# Altium footprint library ATK-2014-09-12.PcbLib: 439 footprints (part 24 of 28)
Each footprint in its own frame and in the unit in brackets; x right, y up, seen from the top. Pads: shape width x height; smd on the part's side, far side on the other; paste and mask are expansions set on the pad; w line width, h text height; cw(c..) or ccw(c..) is an arc to the next point about the centre after c.
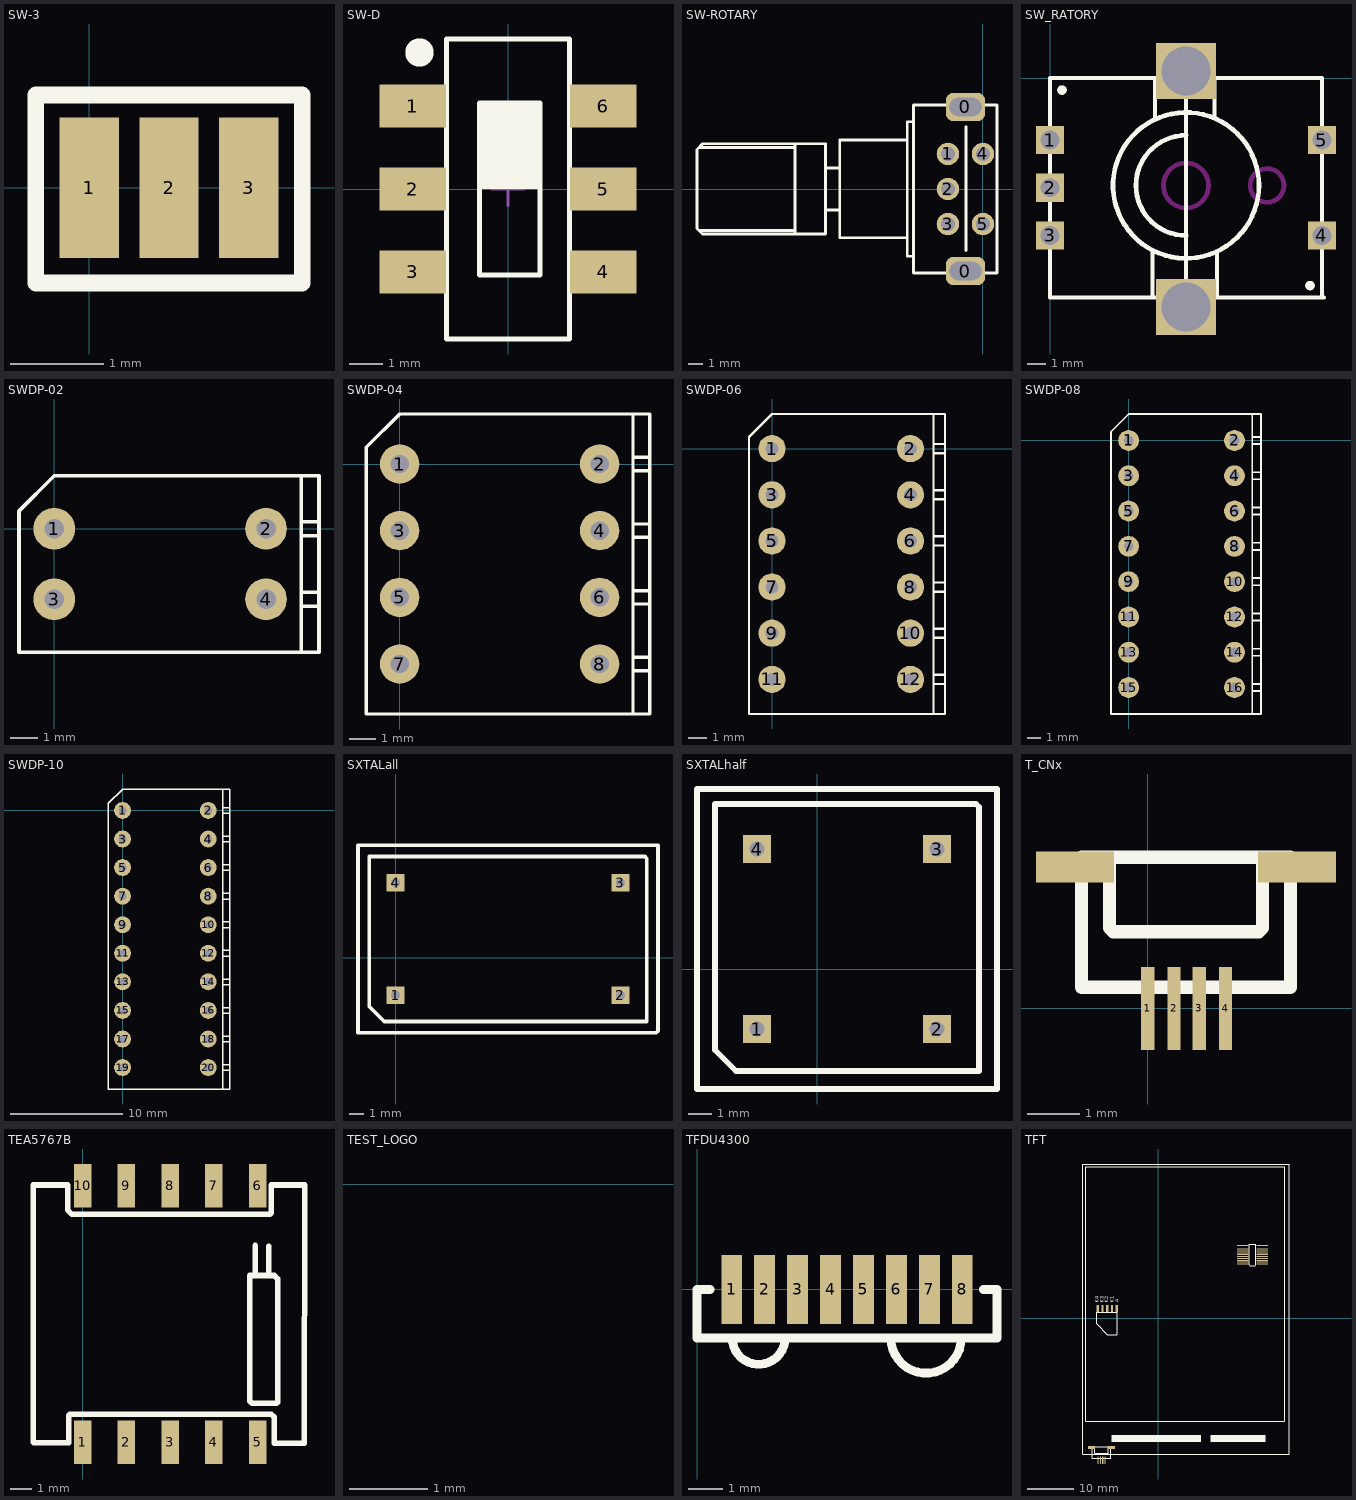
[diagram p23: the footprints below, top view; thin cyan lines are the x and y axes]

## SW-3 [mm] "SWITCH;PIN:10;25*50;"
pads (3):
  rect 0.635x1.5 smd: 1(0,0) 2(0.851,0) 3(1.702,0)
Top Overlay:
  lines w0.178: -0.572,-1.016 -0.572,0.991 2.273,0.991 2.273,-1.016 -0.572,-1.016

## SW-D [mm]
pads (6):
  rect 2x1.3 smd: 1(-2.875,2.5) 2(-2.875,0) 3(-2.875,-2.5) 4(2.875,-2.5) 5(2.875,0) 6(2.875,2.5)
Top Overlay:
  circle w0.6: c-2.667,4.115 r0.127
  rectangle: -0.889,0 1.041,2.565
  lines w0.152: -1.854,-4.521 -1.854,4.521 1.854,4.521 1.854,-4.521 -1.854,-4.521 ; -0.864,-2.591 -0.864,2.591 0.965,2.591 0.965,-2.591 -0.864,-2.591
Mechanical 15:
  lines w0.1: -0.5,0 0.5,0 ; 0,-0.5 0,0.5

## SW-ROTARY [mm] "ALPS 编码器 EC11B15242AE  侧式"
pads (7):
  rrect50% 2.8x2 hole 1.3 slot 2.3 at 0 deg: 0(-1.25,-5.85) 0(-1.25,5.85)
  round 1.6 hole 1: 1(-2.5,2.5) 2(-2.5,0) 3(-2.5,-2.5) 4(0,2.5) 5(0,-2.5)
Top Overlay:
  lines w0.2: -20.4,-2.8 -20.4,2.8 ; -20.396,-2.819 -20.015,-3.2 -11.227,-3.2 -11.227,-1.118 ; -20.396,2.819 -19.99,3.226 -11.227,3.226 -11.227,-1.473 ; -20.244,-2.95 -13.437,-2.95 ; -20.244,2.95 -13.411,2.95 -13.411,-3.175 ; -13.411,2.921 -13.411,3.175 ; -11.2,-1.5 -10.211,-1.5 ; -11.2,1.5 -10.211,1.5 ; -10.211,3.505 -10.211,-3.48 -5.41,-3.48 ; -10.2,3.505 -5.436,3.505 ; -5.4,4.8 -5.4,-4.785 -5.385,-4.801 -4.953,-4.801 ; -5.385,4.801 -4.953,4.801 ; -4.95,-6 -4.95,6 ; -4.928,-6 1,-6 1,6 -4.928,6 ; -1.219,-4.394 -1.219,4.445

## SW_RATORY [mm]
pads (7):
  rect 1.5x1.5 hole 1: 1(0,-3.302) 2(0,-5.842) 3(0,-8.382) 4(14.478,-8.382) 5(14.478,-3.302)
  rect 3.2x3 hole 2.6: ""(7.239,-12.192) ""(7.239,0.381)
Top Overlay:
  circle w0.254: c7.239,-5.715 r3.885
  circle w0.254: c0.635,-0.635 r0.127
  circle w0.254: c13.843,-11.049 r0.127
  lines w0.2: -0.022,0 14.478,0 ; 0,-11.7 0,0 ; 0.105,-11.684 14.605,-11.684 ; 5.461,-11.684 5.461,-9.144 ; 5.588,-2.159 5.588,0 ; 7.239,-11.684 7.239,0 ; 7.239,-8.255 7.239,-3.048 ; 8.763,-2.032 8.763,0 ; 8.89,-11.684 8.89,-9.271 ; 14.478,-11.684 14.478,0.016
  lines w0.254: 7.239,-8.382 cw(c7.239,-5.715) 7.239,-3.048
Keep-Out Layer:
  circle w0.254: c7.239,-5.715 r1.2
  circle w0.254: c11.557,-5.715 r0.9

## SWDP-02 [mm] "拨码开关 2位 侧拨  2.54间距"
height 9.779
pads (4):
  round 1.5 hole 0.7: 1(0,0) 2(7.62,0) 3(0,-2.54) 4(7.62,-2.54)
Top Overlay:
  lines w0.127: 8.89,-4.445 8.89,1.905 ; 8.89,-2.794 9.525,-2.794 ; 8.89,-2.286 9.525,-2.286 ; 8.89,-0.254 9.525,-0.254 ; 8.89,0.254 9.525,0.254 ; 8.89,1.905 0,1.905 -1.27,0.635 -1.27,-4.445 9.525,-4.445 9.525,1.905 8.89,1.905

## SWDP-04 [mm] "拨码开关 4位 侧拨  2.54间距"
height 8.89
pads (8):
  round 1.5 hole 0.7: 1(0,0) 2(7.62,0) 3(0,-2.54) 4(7.62,-2.54) 5(0,-5.08) 6(7.62,-5.08) 7(0,-7.62) 8(7.62,-7.62)
Top Overlay:
  lines w0.127: 8.89,-9.525 8.89,1.905 ; 8.89,-7.874 9.525,-7.874 ; 8.89,-7.366 9.525,-7.366 ; 8.89,-5.334 9.525,-5.334 ; 8.89,-4.826 9.525,-4.826 ; 8.89,-2.794 9.525,-2.794 ; 8.89,-2.286 9.525,-2.286 ; 8.89,-0.254 9.525,-0.254 ; 8.89,0.254 9.525,0.254 ; 8.89,1.905 9.525,1.905 9.525,-9.525 -1.27,-9.525 -1.27,0.635 0,1.905 8.89,1.905

## SWDP-06 [mm] "拨码开关 6位 侧拨  2.54间距"
height 8.89
pads (12):
  round 1.5 hole 0.7: 1(0,0) 2(7.62,0) 3(0,-2.54) 4(7.62,-2.54) 5(0,-5.08) 6(7.62,-5.08) 7(0,-7.62) 8(7.62,-7.62) 9(0,-10.16) 10(7.62,-10.16) 11(0,-12.7) 12(7.62,-12.7)
Top Overlay:
  lines w0.127: 8.89,-14.605 8.89,1.905 ; 8.89,-12.954 9.525,-12.954 ; 8.89,-12.446 9.525,-12.446 ; 8.89,-10.414 9.525,-10.414 ; 8.89,-9.906 9.525,-9.906 ; 8.89,-7.874 9.525,-7.874 ; 8.89,-7.366 9.525,-7.366 ; 8.89,-5.334 9.525,-5.334 ; 8.89,-4.826 9.525,-4.826 ; 8.89,-2.794 9.525,-2.794 ; 8.89,-2.286 9.525,-2.286 ; 8.89,-0.254 9.525,-0.254 ; 8.89,0.254 9.525,0.254 ; 8.89,1.905 0,1.905 -1.27,0.635 -1.27,-14.605 9.525,-14.605 9.525,1.905 8.89,1.905

## SWDP-08 [mm] "拨码开关 8位 侧拨  2.54间距"
height 8.9
pads (16):
  round 1.5 hole 0.7: 1(0,0) 2(7.62,0) 3(0,-2.54) 4(7.62,-2.54) 5(0,-5.08) 6(7.62,-5.08) 7(0,-7.62) 8(7.62,-7.62) 9(0,-10.16) 10(7.62,-10.16) 11(0,-12.7) 12(7.62,-12.7) 13(0,-15.24) 14(7.62,-15.24) 15(0,-17.78) 16(7.62,-17.78)
Top Overlay:
  lines w0.127: 8.89,-19.685 8.89,1.905 ; 8.89,-18.034 9.525,-18.034 ; 8.89,-17.526 9.525,-17.526 ; 8.89,-15.494 9.525,-15.494 ; 8.89,-14.986 9.525,-14.986 ; 8.89,-12.954 9.525,-12.954 ; 8.89,-12.446 9.525,-12.446 ; 8.89,-10.414 9.525,-10.414 ; 8.89,-9.906 9.525,-9.906 ; 8.89,-7.874 9.525,-7.874 ; 8.89,-7.366 9.525,-7.366 ; 8.89,-5.334 9.525,-5.334 ; 8.89,-4.826 9.525,-4.826 ; 8.89,-2.794 9.525,-2.794 ; 8.89,-2.286 9.525,-2.286 ; 8.89,-0.254 9.525,-0.254 ; 8.89,0.254 9.525,0.254 ; 8.89,1.905 0,1.905 -1.27,0.635 -1.27,-19.685 9.525,-19.685 9.525,1.905 8.89,1.905

## SWDP-10 [mm] "拨码开关 10位 侧拨  2.54间距"
height 9.8
pads (20):
  round 1.5 hole 0.7: 1(0,0) 2(7.62,0) 3(0,-2.54) 4(7.62,-2.54) 5(0,-5.08) 6(7.62,-5.08) 7(0,-7.62) 8(7.62,-7.62) 9(0,-10.16) 10(7.62,-10.16) 11(0,-12.7) 12(7.62,-12.7) 13(0,-15.24) 14(7.62,-15.24) 15(0,-17.78) 16(7.62,-17.78) 17(0,-20.32) 18(7.62,-20.32) 19(0,-22.86) 20(7.62,-22.86)
Top Overlay:
  lines w0.127: 8.89,-24.765 8.89,1.905 ; 8.89,-23.114 9.525,-23.114 ; 8.89,-22.606 9.525,-22.606 ; 8.89,-20.574 9.525,-20.574 ; 8.89,-20.066 9.525,-20.066 ; 8.89,-18.034 9.525,-18.034 ; 8.89,-17.526 9.525,-17.526 ; 8.89,-15.494 9.525,-15.494 ; 8.89,-14.986 9.525,-14.986 ; 8.89,-12.954 9.525,-12.954 ; 8.89,-12.446 9.525,-12.446 ; 8.89,-10.414 9.525,-10.414 ; 8.89,-9.906 9.525,-9.906 ; 8.89,-7.874 9.525,-7.874 ; 8.89,-7.366 9.525,-7.366 ; 8.89,-5.334 9.525,-5.334 ; 8.89,-4.826 9.525,-4.826 ; 8.89,-2.794 9.525,-2.794 ; 8.89,-2.286 9.525,-2.286 ; 8.89,-0.254 9.525,-0.254 ; 8.89,0.254 9.525,0.254 ; 8.89,1.905 9.525,1.905 9.525,-19.685 9.525,-24.765 -1.27,-24.765 -1.27,0.635 0,1.905 8.89,1.905

## SXTALall [mm] "SXTAL"
height 5
pads (4):
  rect 1.2x1.2 hole 0.635: 1(0,-2.54) 2(15.24,-2.54) 3(15.24,5.08) 4(0,5.08)
Top Overlay:
  lines w0.254: -2.54,-5.08 -2.54,7.62 17.78,7.62 17.78,-4.953 17.653,-5.08 -2.54,-5.08 ; -1.778,-3.302 -1.778,6.858 16.891,6.858 17.018,6.731 17.018,-4.318 -0.762,-4.318 -1.778,-3.302

## SXTALhalf [mm] "SXTAL"
height 5
pads (4):
  rect 1.2x1.2 hole 0.635: 1(-2.54,-2.54) 2(5.08,-2.54) 3(5.08,5.08) 4(-2.54,5.08)
Top Overlay:
  lines w0.254: -5.08,-5.08 -5.08,7.62 0,7.62 7.62,7.62 7.62,-5.08 -5.08,-5.08 ; -4.318,-3.429 -4.318,6.985 6.731,6.985 6.858,6.858 6.858,-4.318 -3.429,-4.318 -4.318,-3.429

## T_CNx [mil] "TOUCH_CN"
height 39.37
pads (6):
  rect 10x62.99 smd: 1(0,0) 2(20,0) 3(39,0) 4(59,0)
  rect 59.06x23.62 smd: ""(-55,107) ""(113,107)
Top Overlay:
  lines w10: -29,114.43 -29,61 -26,58 84,58 87,61 87,114.43 ; 107.48,16 -50,16 -50,114.43 108,114.43 108,16

## TEA5767B [mm] "TEA5767"
height 2
pads (10):
  rect 0.8x2 smd: 1(0,5.08) 2(2,5.08) 3(4,5.08) 4(6,5.08) 5(8,5.08) 6(8,16.8) 7(6,16.8) 8(4,16.8) 9(2,16.8) 10(0,16.8)
Top Overlay:
  lines w0.254: 7.899,12.7 7.899,14.072 ; 8.509,12.7 8.509,14.046 ; -2.261,5.08 -2.261,16.84 -0.686,16.84 -0.686,15.697 -0.483,15.494 8.56,15.494 8.636,15.57 8.636,16.84 10.16,16.84 10.16,16.637 10.135,5.029 8.763,5.029 8.763,6.223 8.636,6.35 -0.584,6.35 -0.635,6.299 -0.635,5.055 -2.235,5.055 -2.261,5.08 ; 7.645,6.96 7.645,12.7 8.763,12.7 8.915,12.548 8.915,6.909 8.865,6.858 7.747,6.858 7.645,6.96

## TEST_LOGO [mm]
Top Overlay:
  text "车载POS机控制板" at -12.827,-3.556 h3.81

## TFDU4300 [mm] "8.5mm*2.85mm;pin:0.95mm;"
height 2.4
pads (8):
  rect 0.6x2 smd: 1(1,0) 2(1.95,0) 3(2.9,0) 4(3.85,0) 5(4.8,0) 6(5.75,0) 7(6.7,0) 8(7.65,0)
Top Overlay:
  lines w0.254: 0.381,0 0,0 0,-1.397 8.65,-1.397 8.65,0 8.255,0 ; 1.016,-1.397 ccw(c1.778,-1.397) 2.54,-1.397 ; 5.588,-1.397 ccw(c6.604,-1.397) 7.62,-1.397

## TFT [mil] "TFTLCD_34"
height 196.85
pads (33):
  rect 98.43x8 smd: 1(710,615) 2(710,599.25) 3(710,583.5) 4(710,567.76) 5(710,552.01) 6(710,536.26) 7(710,520.51) 8(710,504.76) 9(710,489.02) 10(710,473.27) 11(710,457.52) 12(875.35,457.52) 13(875.35,473.27) 14(875.35,489.02) 15(875.35,504.76) 16(875.35,520.51) 17(875.35,536.26) 18(875.35,552.01) 19(875.35,567.76) 20(875.35,583.5) 21(875.35,599.25) 22(875.35,615)
  rect 19.68x59.05 smd: 23(-350,83.9) 24(-390,83.9) 26(-470,83.9) 27(-510,83.9)
  rect 19.68x59.06 smd: 25(-430,83.9)
  rect 10x62.99 smd: 28(-508,-1194) 29(-488,-1194) 30(-469,-1194) 31(-449,-1194)
  rect 59.06x23.62 smd: ""(-563,-1087) ""(-395,-1087)
Top Overlay:
  rectangle: -395,-1040 360,-980
  rectangle: 440,-1040 900,-980
  lines w10: -537,-1079.57 -537,-1133 -534,-1136 -424,-1136 -421,-1133 -421,-1079.57 ; -400.52,-1178 -558,-1178 -558,-1079.57 -400,-1079.57 -400,-1178 ; -350,-136.1 -430,-136.1 -520,-46.1 -520,53.9 -345,53.9 -345,-16.1 -345,-136.1 ; -635,-1145 1100,-1145 1100,-895 1100,900 1100,1300 -635,1300 -635,-1145 ; -610,-865.35 -610,1275 1065,1275 1065,-860.35 1060,-865.35 -610,-865.35 ; 765,450 765,625 820,625 820,450 815,445 770,445 765,450
  text "K4" at -500,130 h30
  text "K3" at -460,130 h30
  text "K2" at -420,130 h30
  text "K1" at -375,130 h30
  text "A" at -335,135 h30